# EAGLE library part A3941 (library allegro)
Description The A3941 is a full-bridge controller for use with external N-channel power MOSFETs and is specifically designed for automotive applications with high-power inductive loads, such as brush DC motors. A unique charge pump regulator provides full (>10 V) gate drive for battery voltages down to 7 V and allows the A3941 to operate with a reduced gate drive, down to 5.5 V. A bootstrap capacitor is used to provide the above-battery supply voltage required for N-channel MOSFETs. An internal charge pump for the high-side drive allows DC (100% duty cycle) operation. The full bridge can be driven in fast or slow decay modes using diode or synchronous rectification. In the slow decay mode, current recirculation can be through the high-side or the low- side FETs. The power FETs are protected from shoot-through by resistor adjustable dead time. Integrated diagnostics provide indication of undervoltage, overtemperature, and power bridge faults, and can be configured to protect the power MOSFETs under most short circuit conditions. The A3941 is supplied in a 28-pin TSSOP power package with an exposed thermal pad (suffix LP). This package is lead (Pb) free, with 100% matte-tin leadframe plating.
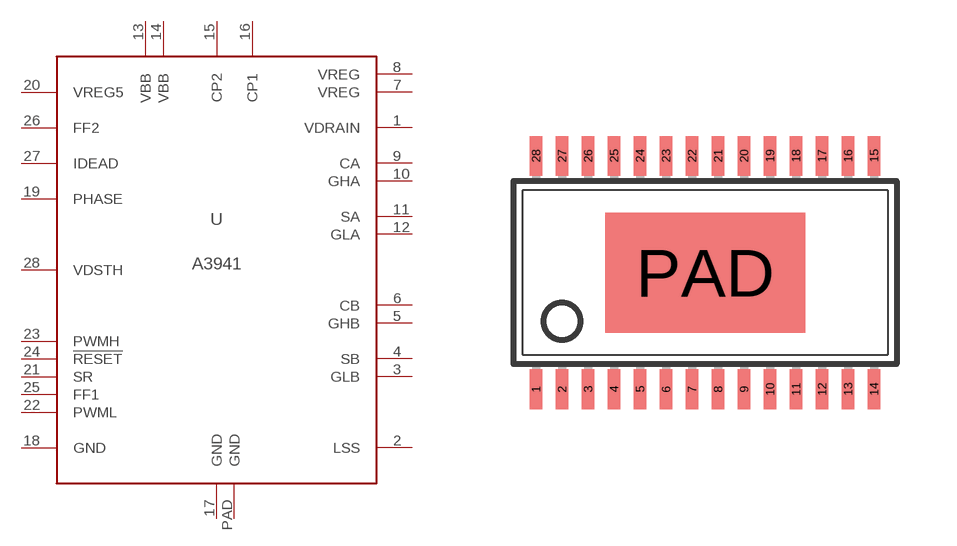
[diagram p14: symbol with the pads of TSSOP28-PAD; footprint TSSOP28-PAD]

Designator prefix U

## A3941  [TSSOP28-PAD]
1  VDRAIN  pwr
2  LSS  pwr
3  GLB  out
4  SB  out
5  GHB  out
6  CB  out
7  VREG  out
8  VREG  out
9  CA  out
10  GHA  out
11  SA  out
12  GLA  out
13  VBB  pwr
14  VBB  pwr
15  CP2
16  CP1
17  GND  pwr
18  GND  pwr
19  PHASE  in
20  VREG5  pwr
21  SR  in
22  PWML  in
23  PWMH  in
24  !RESET  in
25  FF1  in
26  FF2  in
27  IDEAD  in
28  VDSTH  in
PAD  GND  pwr

## Footprint TSSOP28-PAD (pad centres in mm)
28-pin Thin Shrink Small Outline Package with Exposed Thermal Pad
smd 0.305 x 0.991: 1 -4.225,-2.918; 2 -3.575,-2.918; 3 -2.925,-2.918; 4 -2.275,-2.918; 5 -1.625,-2.918; 6 -0.975,-2.918; 7 -0.325,-2.918; 8 0.325,-2.918; 9 0.975,-2.918; 10 1.625,-2.918; 11 2.275,-2.918; 12 2.925,-2.918; 13 3.575,-2.918; 14 4.225,-2.918; 15 4.225,2.918; 16 3.575,2.918; 17 2.925,2.918; 18 2.275,2.918; 19 1.625,2.918; 20 0.975,2.918; 21 0.325,2.918; 22 -0.325,2.918; 23 -0.975,2.918; 24 -1.625,2.918; 25 -2.275,2.918; 26 -2.925,2.918; 27 -3.575,2.918; 28 -4.225,2.918
smd 5 x 3: PAD 0,0